# Altium schematic symbol library Mouse Bites - 45 degrees.Schlib: 1 symbol
Pins are listed as number, name and electrical type; pins without a type are passive.

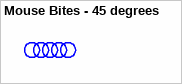
[diagram p0: symbol Mouse Bites - 45 degrees]

## Mouse Bites - 45 degrees
designator MB?  (value not drawn)  (no BOM)
footprint Mouse Bites - 45 degrees (Mouse Bites 100mil groove, 20mil holes, 30 mil separation)